# EAGLE library part TPS5428* (library TI)
2A dual buck converter with integrated high-side mosfet
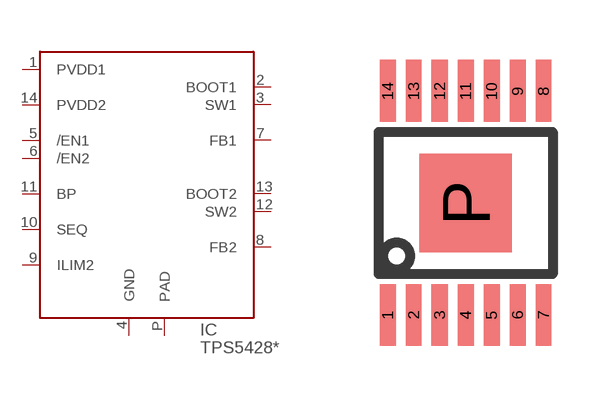
[diagram p9: symbol with the pads of MSOP14-P; footprint MSOP14-P]

Designator prefix IC

## TPS54283PWP, TPS54286PWP  [MSOP14-P]
1  PVDD1  pwr
2  BOOT1
3  SW1
4  GND  pwr
5  /EN1
6  /EN2
7  FB1
8  FB2
9  ILIM2
10  SEQ
11  BP
12  SW2
13  BOOT2
14  PVDD2  pwr
P  PAD

## Footprint MSOP14-P (pad centres in mm)
Texas Instruments MSOP14 package, 0.65mm pitch
smd 0.4 x 1.55: 1 -1.95,-2.8; 2 -1.3,-2.8; 3 -0.65,-2.8; 4 0,-2.8; 5 0.65,-2.8; 6 1.3,-2.8; 7 1.95,-2.8; 8 1.95,2.8; 9 1.3,2.8; 10 0.65,2.8; 11 0,2.8; 12 -0.65,2.8; 13 -1.3,2.8; 14 -1.95,2.8
smd 2.31 x 2.46: P 0,0